# Altium footprint library bga_footp.PcbLib: 19 footprints (part 4 of 4)
Each footprint in its own frame and in the unit in brackets; x right, y up, seen from the top. Pads: shape width x height; smd on the part's side, far side on the other; paste and mask are expansions set on the pad; w line width, h text height; cw(c..) or ccw(c..) is an arc to the next point about the centre after c.
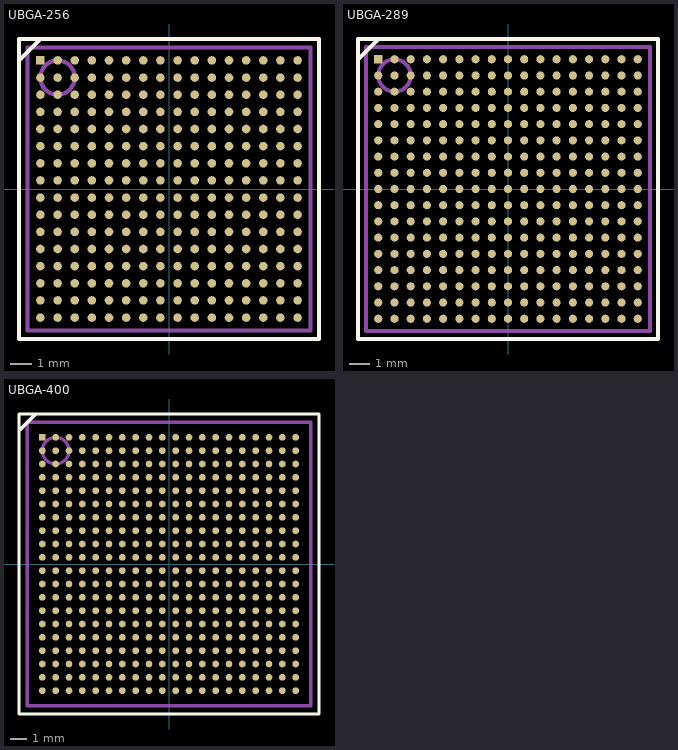
[diagram p3: the footprints below, top view; thin cyan lines are the x and y axes]

## UBGA-256 [mm] "0,8mm pitch"
height 1.5
pads (256):
  rect 0.4x0.4 smd: A1(-6,6)
  round 0.4 smd: A2(-5.2,6) A3(-4.4,6) A4(-3.6,6) A5(-2.8,6) A6(-2,6) A7(-1.2,6) A8(-0.4,6) A9(0.4,6) A10(1.2,6) A11(2,6) A12(2.8,6) A13(3.6,6) A14(4.4,6) A15(5.2,6) A16(6,6) B1(-6,5.2) B2(-5.2,5.2) B3(-4.4,5.2) B4(-3.6,5.2) B5(-2.8,5.2) B6(-2,5.2) B7(-1.2,5.2) B8(-0.4,5.2) B9(0.4,5.2) B10(1.2,5.2) B11(2,5.2) B12(2.8,5.2) B13(3.6,5.2) B14(4.4,5.2) B15(5.2,5.2) B16(6,5.2) C1(-6,4.4) C2(-5.2,4.4) C3(-4.4,4.4) C4(-3.6,4.4) C5(-2.8,4.4) C6(-2,4.4) C7(-1.2,4.4) C8(-0.4,4.4) C9(0.4,4.4) C10(1.2,4.4) C11(2,4.4) C12(2.8,4.4) C13(3.6,4.4) C14(4.4,4.4) C15(5.2,4.4) C16(6,4.4) D1(-6,3.6) D2(-5.2,3.6) D3(-4.4,3.6) D4(-3.6,3.6) D5(-2.8,3.6) D6(-2,3.6) D7(-1.2,3.6) D8(-0.4,3.6) D9(0.4,3.6) D10(1.2,3.6) D11(2,3.6) D12(2.8,3.6) D13(3.6,3.6) D14(4.4,3.6) D15(5.2,3.6) D16(6,3.6) E1(-6,2.8) E2(-5.2,2.8) E3(-4.4,2.8) E4(-3.6,2.8) E5(-2.8,2.8) E6(-2,2.8) E7(-1.2,2.8) E8(-0.4,2.8) E9(0.4,2.8) E10(1.2,2.8) E11(2,2.8) E12(2.8,2.8) E13(3.6,2.8) E14(4.4,2.8) E15(5.2,2.8) E16(6,2.8) F1(-6,2) F2(-5.2,2) F3(-4.4,2) F4(-3.6,2) F5(-2.8,2) F6(-2,2) F7(-1.2,2) F8(-0.4,2) F9(0.4,2) F10(1.2,2) F11(2,2) F12(2.8,2) F13(3.6,2) F14(4.4,2) F15(5.2,2) F16(6,2) G1(-6,1.2) G2(-5.2,1.2) G3(-4.4,1.2) G4(-3.6,1.2) G5(-2.8,1.2) G6(-2,1.2) G7(-1.2,1.2) G8(-0.4,1.2) G9(0.4,1.2) G10(1.2,1.2) G11(2,1.2) G12(2.8,1.2) G13(3.6,1.2) G14(4.4,1.2) G15(5.2,1.2) G16(6,1.2) H1(-6,0.4) H2(-5.2,0.4) H3(-4.4,0.4) H4(-3.6,0.4) H5(-2.8,0.4) H6(-2,0.4) H7(-1.2,0.4) H8(-0.4,0.4) H9(0.4,0.4) H10(1.2,0.4) H11(2,0.4) H12(2.8,0.4) H13(3.6,0.4) H14(4.4,0.4) H15(5.2,0.4) H16(6,0.4) J1(-6,-0.4) J2(-5.2,-0.4) J3(-4.4,-0.4) J4(-3.6,-0.4) J5(-2.8,-0.4) J6(-2,-0.4) J7(-1.2,-0.4) J8(-0.4,-0.4) J9(0.4,-0.4) J10(1.2,-0.4) J11(2,-0.4) J12(2.8,-0.4) J13(3.6,-0.4) J14(4.4,-0.4) J15(5.2,-0.4) J16(6,-0.4) K1(-6,-1.2) K2(-5.2,-1.2) K3(-4.4,-1.2) K4(-3.6,-1.2) K5(-2.8,-1.2) K6(-2,-1.2) K7(-1.2,-1.2) K8(-0.4,-1.2) K9(0.4,-1.2) K10(1.2,-1.2) K11(2,-1.2) K12(2.8,-1.2) K13(3.6,-1.2) K14(4.4,-1.2) K15(5.2,-1.2) K16(6,-1.2) L1(-6,-2) L2(-5.2,-2) L3(-4.4,-2) L4(-3.6,-2) L5(-2.8,-2) L6(-2,-2) L7(-1.2,-2) L8(-0.4,-2) L9(0.4,-2) L10(1.2,-2) L11(2,-2) L12(2.8,-2) L13(3.6,-2) L14(4.4,-2) L15(5.2,-2) L16(6,-2) M1(-6,-2.8) M2(-5.2,-2.8) M3(-4.4,-2.8) M4(-3.6,-2.8) M5(-2.8,-2.8) M6(-2,-2.8) M7(-1.2,-2.8) M8(-0.4,-2.8) M9(0.4,-2.8) M10(1.2,-2.8) M11(2,-2.8) M12(2.8,-2.8) M13(3.6,-2.8) M14(4.4,-2.8) M15(5.2,-2.8) M16(6,-2.8) N1(-6,-3.6) N2(-5.2,-3.6) N3(-4.4,-3.6) N4(-3.6,-3.6) N5(-2.8,-3.6) N6(-2,-3.6) N7(-1.2,-3.6) N8(-0.4,-3.6) N9(0.4,-3.6) N10(1.2,-3.6) N11(2,-3.6) N12(2.8,-3.6) N13(3.6,-3.6) N14(4.4,-3.6) N15(5.2,-3.6) N16(6,-3.6) P1(-6,-4.4) P2(-5.2,-4.4) P3(-4.4,-4.4) P4(-3.6,-4.4) P5(-2.8,-4.4) P6(-2,-4.4) P7(-1.2,-4.4) P8(-0.4,-4.4) P9(0.4,-4.4) P10(1.2,-4.4) P11(2,-4.4) P12(2.8,-4.4) P13(3.6,-4.4) P14(4.4,-4.4) P15(5.2,-4.4) P16(6,-4.4) R1(-6,-5.2) R2(-5.2,-5.2) R3(-4.4,-5.2) R4(-3.6,-5.2) R5(-2.8,-5.2) R6(-2,-5.2) R7(-1.2,-5.2) R8(-0.4,-5.2) R9(0.4,-5.2) R10(1.2,-5.2) R11(2,-5.2) R12(2.8,-5.2) R13(3.6,-5.2) R14(4.4,-5.2) R15(5.2,-5.2) R16(6,-5.2) T1(-6,-6) T2(-5.2,-6) T3(-4.4,-6) T4(-3.6,-6) T5(-2.8,-6) T6(-2,-6) T7(-1.2,-6) T8(-0.4,-6) T9(0.4,-6) T10(1.2,-6) T11(2,-6) T12(2.8,-6) T13(3.6,-6) T14(4.4,-6) T15(5.2,-6) T16(6,-6)
Top Overlay:
  lines w0.2: -7,6 -6,7 ; -7,-7 7,-7 7,7 -7,7 -7,-7
Mechanical 1:
  circle w0.2: c-5.2,5.2 r0.8
  lines w0.2: -6.6,-6.6 6.6,-6.6 6.6,6.6 -6.6,6.6 -6.6,-6.6
3D body: height 0.5, standoff -0.1, extent 5.701,3.3 6.299,3.897
3D body: height 0.5, standoff -0.1, extent 5.701,4.1 6.299,4.697
3D body: height 0.5, standoff -0.1, extent 5.701,4.9 6.299,5.497
3D body: height 0.5, standoff -0.1, extent 5.701,5.7 6.299,6.297
3D body: height 0.5, standoff -0.1, extent 5.701,-0.7 6.299,-0.103
3D body: height 0.5, standoff -0.1, extent 5.701,-1.5 6.299,-0.903
3D body: height 0.5, standoff -0.1, extent 5.701,-2.3 6.299,-1.703
3D body: height 0.5, standoff -0.1, extent 5.701,0.1 6.299,0.697
3D body: height 0.5, standoff -0.1, extent 5.701,0.9 6.299,1.497
3D body: height 0.5, standoff -0.1, extent 5.701,1.7 6.299,2.297
3D body: height 0.5, standoff -0.1, extent 5.701,2.5 6.299,3.097
3D body: height 0.5, standoff -0.1, extent 5.701,-5.5 6.299,-4.903
3D body: height 0.5, standoff -0.1, extent 5.701,-4.7 6.299,-4.103
3D body: height 0.5, standoff -0.1, extent 5.701,-3.9 6.299,-3.303
3D body: height 0.5, standoff -0.1, extent 5.701,-3.1 6.299,-2.503
3D body: height 0.5, standoff -0.1, extent -6.3,-6.299 -5.703,-5.701
3D body: height 0.5, standoff -0.1, extent -0.7,-6.299 -0.103,-5.701
3D body: height 0.5, standoff -0.1, extent -1.5,-6.299 -0.903,-5.701
3D body: height 0.5, standoff -0.1, extent -2.3,-6.299 -1.703,-5.701
3D body: height 0.5, standoff -0.1, extent -3.1,-6.299 -2.503,-5.701
3D body: height 0.5, standoff -0.1, extent -5.5,-6.299 -4.903,-5.701
3D body: height 0.5, standoff -0.1, extent -4.7,-6.299 -4.103,-5.701
3D body: height 0.5, standoff -0.1, extent -3.9,-6.299 -3.303,-5.701
3D body: height 0.5, standoff -0.1, extent 2.5,-6.299 3.097,-5.701
3D body: height 0.5, standoff -0.1, extent 1.7,-6.299 2.297,-5.701
3D body: height 0.5, standoff -0.1, extent 0.9,-6.299 1.497,-5.701
3D body: height 0.5, standoff -0.1, extent 0.1,-6.299 0.697,-5.701
3D body: height 0.5, standoff -0.1, extent 3.3,-6.299 3.897,-5.701
3D body: height 0.5, standoff -0.1, extent 4.1,-6.299 4.697,-5.701
3D body: height 0.5, standoff -0.1, extent 4.9,-6.299 5.497,-5.701
3D body: height 0.5, standoff -0.1, extent 5.7,-6.299 6.297,-5.701
3D body: height 0.5, standoff -0.1, extent -6.299,-3.897 -5.701,-3.3
3D body: height 0.5, standoff -0.1, extent -6.299,-4.697 -5.701,-4.1
3D body: height 0.5, standoff -0.1, extent -6.299,-5.497 -5.701,-4.9
3D body: height 0.5, standoff -0.1, extent -6.299,0.103 -5.701,0.7
3D body: height 0.5, standoff -0.1, extent -6.299,0.903 -5.701,1.5
3D body: height 0.5, standoff -0.1, extent -6.299,1.703 -5.701,2.3
3D body: height 0.5, standoff -0.1, extent -6.299,-0.697 -5.701,-0.1
3D body: height 0.5, standoff -0.1, extent -6.299,-1.497 -5.701,-0.9
3D body: height 0.5, standoff -0.1, extent -6.299,-2.297 -5.701,-1.7
3D body: height 0.5, standoff -0.1, extent -6.299,-3.097 -5.701,-2.5
3D body: height 0.5, standoff -0.1, extent -6.299,4.903 -5.701,5.5
3D body: height 0.5, standoff -0.1, extent -6.299,4.103 -5.701,4.7
3D body: height 0.5, standoff -0.1, extent -6.299,3.303 -5.701,3.9
3D body: height 0.5, standoff -0.1, extent -6.299,2.503 -5.701,3.1
3D body: height 0.5, standoff -0.1, extent 0.103,5.701 0.7,6.299
3D body: height 0.5, standoff -0.1, extent 0.903,5.701 1.5,6.299
3D body: height 0.5, standoff -0.1, extent 1.703,5.701 2.3,6.299
3D body: height 0.5, standoff -0.1, extent 2.503,5.701 3.1,6.299
3D body: height 0.5, standoff -0.1, extent 4.903,5.701 5.5,6.299
3D body: height 0.5, standoff -0.1, extent 4.103,5.701 4.7,6.299
3D body: height 0.5, standoff -0.1, extent 3.303,5.701 3.9,6.299
3D body: height 0.5, standoff -0.1, extent -3.097,5.701 -2.5,6.299
3D body: height 0.5, standoff -0.1, extent -2.297,5.701 -1.7,6.299
3D body: height 0.5, standoff -0.1, extent -1.497,5.701 -0.9,6.299
3D body: height 0.5, standoff -0.1, extent -0.697,5.701 -0.1,6.299
3D body: height 0.5, standoff -0.1, extent -3.897,5.701 -3.3,6.299
3D body: height 0.5, standoff -0.1, extent -4.697,5.701 -4.1,6.299
3D body: height 0.5, standoff -0.1, extent -5.497,5.701 -4.9,6.299
3D body: height 0.5, standoff -0.1, extent -6.297,5.701 -5.7,6.299
3D body: height 1.5, standoff 0.3, extent -6.6,-6.6 6.6,6.6

## UBGA-289 [mm] "0,8mm pitch"
height 1.5
pads (289):
  rect 0.4x0.4 smd: A1(-6.4,6.4)
  round 0.4 smd: A2(-5.6,6.4) A3(-4.8,6.4) A4(-4,6.4) A5(-3.2,6.4) A6(-2.4,6.4) A7(-1.6,6.4) A8(-0.8,6.4) A9(0,6.4) A10(0.8,6.4) A11(1.6,6.4) A12(2.4,6.4) A13(3.2,6.4) A14(4,6.4) A15(4.8,6.4) A16(5.6,6.4) A17(6.4,6.4) B1(-6.4,5.6) B2(-5.6,5.6) B3(-4.8,5.6) B4(-4,5.6) B5(-3.2,5.6) B6(-2.4,5.6) B7(-1.6,5.6) B8(-0.8,5.6) B9(0,5.6) B10(0.8,5.6) B11(1.6,5.6) B12(2.4,5.6) B13(3.2,5.6) B14(4,5.6) B15(4.8,5.6) B16(5.6,5.6) B17(6.4,5.6) C1(-6.4,4.8) C2(-5.6,4.8) C3(-4.8,4.8) C4(-4,4.8) C5(-3.2,4.8) C6(-2.4,4.8) C7(-1.6,4.8) C8(-0.8,4.8) C9(0,4.8) C10(0.8,4.8) C11(1.6,4.8) C12(2.4,4.8) C13(3.2,4.8) C14(4,4.8) C15(4.8,4.8) C16(5.6,4.8) C17(6.4,4.8) D1(-6.4,4) D2(-5.6,4) D3(-4.8,4) D4(-4,4) D5(-3.2,4) D6(-2.4,4) D7(-1.6,4) D8(-0.8,4) D9(0,4) D10(0.8,4) D11(1.6,4) D12(2.4,4) D13(3.2,4) D14(4,4) D15(4.8,4) D16(5.6,4) D17(6.4,4) E1(-6.4,3.2) E2(-5.6,3.2) E3(-4.8,3.2) E4(-4,3.2) E5(-3.2,3.2) E6(-2.4,3.2) E7(-1.6,3.2) E8(-0.8,3.2) E9(0,3.2) E10(0.8,3.2) E11(1.6,3.2) E12(2.4,3.2) E13(3.2,3.2) E14(4,3.2) E15(4.8,3.2) E16(5.6,3.2) E17(6.4,3.2) F1(-6.4,2.4) F2(-5.6,2.4) F3(-4.8,2.4) F4(-4,2.4) F5(-3.2,2.4) F6(-2.4,2.4) F7(-1.6,2.4) F8(-0.8,2.4) F9(0,2.4) F10(0.8,2.4) F11(1.6,2.4) F12(2.4,2.4) F13(3.2,2.4) F14(4,2.4) F15(4.8,2.4) F16(5.6,2.4) F17(6.4,2.4) G1(-6.4,1.6) G2(-5.6,1.6) G3(-4.8,1.6) G4(-4,1.6) G5(-3.2,1.6) G6(-2.4,1.6) G7(-1.6,1.6) G8(-0.8,1.6) G9(0,1.6) G10(0.8,1.6) G11(1.6,1.6) G12(2.4,1.6) G13(3.2,1.6) G14(4,1.6) G15(4.8,1.6) G16(5.6,1.6) G17(6.4,1.6) H1(-6.4,0.8) H2(-5.6,0.8) H3(-4.8,0.8) H4(-4,0.8) H5(-3.2,0.8) H6(-2.4,0.8) H7(-1.6,0.8) H8(-0.8,0.8) H9(0,0.8) H10(0.8,0.8) H11(1.6,0.8) H12(2.4,0.8) H13(3.2,0.8) H14(4,0.8) H15(4.8,0.8) H16(5.6,0.8) H17(6.4,0.8) J1(-6.4,0) J2(-5.6,0) J3(-4.8,0) J4(-4,0) J5(-3.2,0) J6(-2.4,0) J7(-1.6,0) J8(-0.8,0) J9(0,0) J10(0.8,0) J11(1.6,0) J12(2.4,0) J13(3.2,0) J14(4,0) J15(4.8,0) J16(5.6,0) J17(6.4,0) K1(-6.4,-0.8) K2(-5.6,-0.8) K3(-4.8,-0.8) K4(-4,-0.8) K5(-3.2,-0.8) K6(-2.4,-0.8) K7(-1.6,-0.8) K8(-0.8,-0.8) K9(0,-0.8) K10(0.8,-0.8) K11(1.6,-0.8) K12(2.4,-0.8) K13(3.2,-0.8) K14(4,-0.8) K15(4.8,-0.8) K16(5.6,-0.8) K17(6.4,-0.8) L1(-6.4,-1.6) L2(-5.6,-1.6) L3(-4.8,-1.6) L4(-4,-1.6) L5(-3.2,-1.6) L6(-2.4,-1.6) L7(-1.6,-1.6) L8(-0.8,-1.6) L9(0,-1.6) L10(0.8,-1.6) L11(1.6,-1.6) L12(2.4,-1.6) L13(3.2,-1.6) L14(4,-1.6) L15(4.8,-1.6) L16(5.6,-1.6) L17(6.4,-1.6) M1(-6.4,-2.4) M2(-5.6,-2.4) M3(-4.8,-2.4) M4(-4,-2.4) M5(-3.2,-2.4) M6(-2.4,-2.4) M7(-1.6,-2.4) M8(-0.8,-2.4) M9(0,-2.4) M10(0.8,-2.4) M11(1.6,-2.4) M12(2.4,-2.4) M13(3.2,-2.4) M14(4,-2.4) M15(4.8,-2.4) M16(5.6,-2.4) M17(6.4,-2.4) N1(-6.4,-3.2) N2(-5.6,-3.2) N3(-4.8,-3.2) N4(-4,-3.2) N5(-3.2,-3.2) N6(-2.4,-3.2) N7(-1.6,-3.2) N8(-0.8,-3.2) N9(0,-3.2) N10(0.8,-3.2) N11(1.6,-3.2) N12(2.4,-3.2) N13(3.2,-3.2) N14(4,-3.2) N15(4.8,-3.2) N16(5.6,-3.2) N17(6.4,-3.2) P1(-6.4,-4) P2(-5.6,-4) P3(-4.8,-4) P4(-4,-4) P5(-3.2,-4) P6(-2.4,-4) P7(-1.6,-4) P8(-0.8,-4) P9(0,-4) P10(0.8,-4) P11(1.6,-4) P12(2.4,-4) P13(3.2,-4) P14(4,-4) P15(4.8,-4) P16(5.6,-4) P17(6.4,-4) R1(-6.4,-4.8) R2(-5.6,-4.8) R3(-4.8,-4.8) R4(-4,-4.8) R5(-3.2,-4.8) R6(-2.4,-4.8) R7(-1.6,-4.8) R8(-0.8,-4.8) R9(0,-4.8) R10(0.8,-4.8) R11(1.6,-4.8) R12(2.4,-4.8) R13(3.2,-4.8) R14(4,-4.8) R15(4.8,-4.8) R16(5.6,-4.8) R17(6.4,-4.8) T1(-6.4,-5.6) T2(-5.6,-5.6) T3(-4.8,-5.6) T4(-4,-5.6) T5(-3.2,-5.6) T6(-2.4,-5.6) T7(-1.6,-5.6) T8(-0.8,-5.6) T9(0,-5.6) T10(0.8,-5.6) T11(1.6,-5.6) T12(2.4,-5.6) T13(3.2,-5.6) T14(4,-5.6) T15(4.8,-5.6) T16(5.6,-5.6) T17(6.4,-5.6) U1(-6.4,-6.4) U2(-5.6,-6.4) U3(-4.8,-6.4) U4(-4,-6.4) U5(-3.2,-6.4) U6(-2.4,-6.4) U7(-1.6,-6.4) U8(-0.8,-6.4) U9(0,-6.4) U10(0.8,-6.4) U11(1.6,-6.4) U12(2.4,-6.4) U13(3.2,-6.4) U14(4,-6.4) U15(4.8,-6.4) U16(5.6,-6.4) U17(6.4,-6.4)
Top Overlay:
  lines w0.2: -7.4,6.4 -6.4,7.4 ; -7.4,-7.4 -7.4,7.4 7.4,7.4 7.4,-7.4 -7.4,-7.4
Mechanical 1:
  circle w0.2: c-5.6,5.6 r0.8
  lines w0.2: -7,-7 -7,7 7,7 7,-7 -7,-7
3D body: height 1.5, standoff 0.3, extent -7,-7 7,7
3D body: height 0.5, standoff -0.1, extent -6.697,6.101 -6.1,6.699
3D body: height 0.5, standoff -0.1, extent -5.897,6.101 -5.3,6.699
3D body: height 0.5, standoff -0.1, extent -5.097,6.101 -4.5,6.699
3D body: height 0.5, standoff -0.1, extent -4.297,6.101 -3.7,6.699
3D body: height 0.5, standoff -0.1, extent -1.097,6.101 -0.5,6.699
3D body: height 0.5, standoff -0.1, extent -1.897,6.101 -1.3,6.699
3D body: height 0.5, standoff -0.1, extent -2.697,6.101 -2.1,6.699
3D body: height 0.5, standoff -0.1, extent -3.497,6.101 -2.9,6.699
3D body: height 0.5, standoff -0.1, extent 2.903,6.101 3.5,6.699
3D body: height 0.5, standoff -0.1, extent 3.703,6.101 4.3,6.699
3D body: height 0.5, standoff -0.1, extent 4.503,6.101 5.1,6.699
3D body: height 0.5, standoff -0.1, extent 2.103,6.101 2.7,6.699
3D body: height 0.5, standoff -0.1, extent 1.303,6.101 1.9,6.699
3D body: height 0.5, standoff -0.1, extent 0.503,6.101 1.1,6.699
3D body: height 0.5, standoff -0.1, extent -0.297,6.101 0.3,6.699
3D body: height 0.5, standoff -0.1, extent 5.303,6.101 5.9,6.699
3D body: height 0.5, standoff -0.1, extent -6.699,2.903 -6.101,3.5
3D body: height 0.5, standoff -0.1, extent -6.699,3.703 -6.101,4.3
3D body: height 0.5, standoff -0.1, extent -6.699,4.503 -6.101,5.1
3D body: height 0.5, standoff -0.1, extent -6.699,5.303 -6.101,5.9
3D body: height 0.5, standoff -0.1, extent -6.699,-2.697 -6.101,-2.1
3D body: height 0.5, standoff -0.1, extent -6.699,-1.897 -6.101,-1.3
3D body: height 0.5, standoff -0.1, extent -6.699,-1.097 -6.101,-0.5
3D body: height 0.5, standoff -0.1, extent -6.699,-0.297 -6.101,0.3
3D body: height 0.5, standoff -0.1, extent -6.699,2.103 -6.101,2.7
3D body: height 0.5, standoff -0.1, extent -6.699,1.303 -6.101,1.9
3D body: height 0.5, standoff -0.1, extent -6.699,0.503 -6.101,1.1
3D body: height 0.5, standoff -0.1, extent -6.699,-5.897 -6.101,-5.3
3D body: height 0.5, standoff -0.1, extent -6.699,-5.097 -6.101,-4.5
3D body: height 0.5, standoff -0.1, extent -6.699,-4.297 -6.101,-3.7
3D body: height 0.5, standoff -0.1, extent -6.699,-3.497 -6.101,-2.9
3D body: height 0.5, standoff -0.1, extent 6.1,-6.699 6.697,-6.101
3D body: height 0.5, standoff -0.1, extent 5.3,-6.699 5.897,-6.101
3D body: height 0.5, standoff -0.1, extent 4.5,-6.699 5.097,-6.101
3D body: height 0.5, standoff -0.1, extent 3.7,-6.699 4.297,-6.101
3D body: height 0.5, standoff -0.1, extent 0.5,-6.699 1.097,-6.101
3D body: height 0.5, standoff -0.1, extent 1.3,-6.699 1.897,-6.101
3D body: height 0.5, standoff -0.1, extent 2.1,-6.699 2.697,-6.101
3D body: height 0.5, standoff -0.1, extent 2.9,-6.699 3.497,-6.101
3D body: height 0.5, standoff -0.1, extent -3.5,-6.699 -2.903,-6.101
3D body: height 0.5, standoff -0.1, extent -4.3,-6.699 -3.703,-6.101
3D body: height 0.5, standoff -0.1, extent -5.1,-6.699 -4.503,-6.101
3D body: height 0.5, standoff -0.1, extent -2.7,-6.699 -2.103,-6.101
3D body: height 0.5, standoff -0.1, extent -1.9,-6.699 -1.303,-6.101
3D body: height 0.5, standoff -0.1, extent -1.1,-6.699 -0.503,-6.101
3D body: height 0.5, standoff -0.1, extent -0.3,-6.699 0.297,-6.101
3D body: height 0.5, standoff -0.1, extent -6.7,-6.699 -6.103,-6.101
3D body: height 0.5, standoff -0.1, extent -5.9,-6.699 -5.303,-6.101
3D body: height 0.5, standoff -0.1, extent 6.101,-3.5 6.699,-2.903
3D body: height 0.5, standoff -0.1, extent 6.101,-4.3 6.699,-3.703
3D body: height 0.5, standoff -0.1, extent 6.101,-5.1 6.699,-4.503
3D body: height 0.5, standoff -0.1, extent 6.101,-5.9 6.699,-5.303
3D body: height 0.5, standoff -0.1, extent 6.101,2.1 6.699,2.697
3D body: height 0.5, standoff -0.1, extent 6.101,1.3 6.699,1.897
3D body: height 0.5, standoff -0.1, extent 6.101,0.5 6.699,1.097
3D body: height 0.5, standoff -0.1, extent 6.101,-0.3 6.699,0.297
3D body: height 0.5, standoff -0.1, extent 6.101,-2.7 6.699,-2.103
3D body: height 0.5, standoff -0.1, extent 6.101,-1.9 6.699,-1.303
3D body: height 0.5, standoff -0.1, extent 6.101,-1.1 6.699,-0.503
3D body: height 0.5, standoff -0.1, extent 6.101,5.3 6.699,5.897
3D body: height 0.5, standoff -0.1, extent 6.101,4.5 6.699,5.097
3D body: height 0.5, standoff -0.1, extent 6.101,3.7 6.699,4.297
3D body: height 0.5, standoff -0.1, extent 6.101,2.9 6.699,3.497
3D body: height 0.5, standoff -0.1, extent 6.101,6.1 6.699,6.697

## UBGA-400 [mm] "0,8mm pitch"
height 1.5
pads (400):
  rect 0.4x0.4 smd: A1(-7.6,7.6)
  round 0.4 smd: A2(-6.8,7.6) A3(-6,7.6) A4(-5.2,7.6) A5(-4.4,7.6) A6(-3.6,7.6) A7(-2.8,7.6) A8(-2,7.6) A9(-1.2,7.6) A10(-0.4,7.6) A11(0.4,7.6) A12(1.2,7.6) A13(2,7.6) A14(2.8,7.6) A15(3.6,7.6) A16(4.4,7.6) A17(5.2,7.6) A18(6,7.6) A19(6.8,7.6) A20(7.6,7.6) B1(-7.6,6.8) B2(-6.8,6.8) B3(-6,6.8) B4(-5.2,6.8) B5(-4.4,6.8) B6(-3.6,6.8) B7(-2.8,6.8) B8(-2,6.8) B9(-1.2,6.8) B10(-0.4,6.8) B11(0.4,6.8) B12(1.2,6.8) B13(2,6.8) B14(2.8,6.8) B15(3.6,6.8) B16(4.4,6.8) B17(5.2,6.8) B18(6,6.8) B19(6.8,6.8) B20(7.6,6.8) C1(-7.6,6) C2(-6.8,6) C3(-6,6) C4(-5.2,6) C5(-4.4,6) C6(-3.6,6) C7(-2.8,6) C8(-2,6) C9(-1.2,6) C10(-0.4,6) C11(0.4,6) C12(1.2,6) C13(2,6) C14(2.8,6) C15(3.6,6) C16(4.4,6) C17(5.2,6) C18(6,6) C19(6.8,6) C20(7.6,6) D1(-7.6,5.2) D2(-6.8,5.2) D3(-6,5.2) D4(-5.2,5.2) D5(-4.4,5.2) D6(-3.6,5.2) D7(-2.8,5.2) D8(-2,5.2) D9(-1.2,5.2) D10(-0.4,5.2) D11(0.4,5.2) D12(1.2,5.2) D13(2,5.2) D14(2.8,5.2) D15(3.6,5.2) D16(4.4,5.2) D17(5.2,5.2) D18(6,5.2) D19(6.8,5.2) D20(7.6,5.2) E1(-7.6,4.4) E2(-6.8,4.4) E3(-6,4.4) E4(-5.2,4.4) E5(-4.4,4.4) E6(-3.6,4.4) E7(-2.8,4.4) E8(-2,4.4) E9(-1.2,4.4) E10(-0.4,4.4) E11(0.4,4.4) E12(1.2,4.4) E13(2,4.4) E14(2.8,4.4) E15(3.6,4.4) E16(4.4,4.4) E17(5.2,4.4) E18(6,4.4) E19(6.8,4.4) E20(7.6,4.4) F1(-7.6,3.6) F2(-6.8,3.6) F3(-6,3.6) F4(-5.2,3.6) F5(-4.4,3.6) F6(-3.6,3.6) F7(-2.8,3.6) F8(-2,3.6) F9(-1.2,3.6) F10(-0.4,3.6) F11(0.4,3.6) F12(1.2,3.6) F13(2,3.6) F14(2.8,3.6) F15(3.6,3.6) F16(4.4,3.6) F17(5.2,3.6) F18(6,3.6) F19(6.8,3.6) F20(7.6,3.6) G1(-7.6,2.8) G2(-6.8,2.8) G3(-6,2.8) G4(-5.2,2.8) G5(-4.4,2.8) G6(-3.6,2.8) G7(-2.8,2.8) G8(-2,2.8) G9(-1.2,2.8) G10(-0.4,2.8) G11(0.4,2.8) G12(1.2,2.8) G13(2,2.8) G14(2.8,2.8) G15(3.6,2.8) G16(4.4,2.8) G17(5.2,2.8) G18(6,2.8) G19(6.8,2.8) G20(7.6,2.8) H1(-7.6,2) H2(-6.8,2) H3(-6,2) H4(-5.2,2) H5(-4.4,2) H6(-3.6,2) H7(-2.8,2) H8(-2,2) H9(-1.2,2) H10(-0.4,2) H11(0.4,2) H12(1.2,2) H13(2,2) H14(2.8,2) H15(3.6,2) H16(4.4,2) H17(5.2,2) H18(6,2) H19(6.8,2) H20(7.6,2) J1(-7.6,1.2) J2(-6.8,1.2) J3(-6,1.2) J4(-5.2,1.2) J5(-4.4,1.2) J6(-3.6,1.2) J7(-2.8,1.2) J8(-2,1.2) J9(-1.2,1.2) J10(-0.4,1.2) J11(0.4,1.2) J12(1.2,1.2) J13(2,1.2) J14(2.8,1.2) J15(3.6,1.2) J16(4.4,1.2) J17(5.2,1.2) J18(6,1.2) J19(6.8,1.2) J20(7.6,1.2) K1(-7.6,0.4) K2(-6.8,0.4) K3(-6,0.4) K4(-5.2,0.4) K5(-4.4,0.4) K6(-3.6,0.4) K7(-2.8,0.4) K8(-2,0.4) K9(-1.2,0.4) K10(-0.4,0.4) K11(0.4,0.4) K12(1.2,0.4) K13(2,0.4) K14(2.8,0.4) K15(3.6,0.4) K16(4.4,0.4) K17(5.2,0.4) K18(6,0.4) K19(6.8,0.4) K20(7.6,0.4) L1(-7.6,-0.4) L2(-6.8,-0.4) L3(-6,-0.4) L4(-5.2,-0.4) L5(-4.4,-0.4) L6(-3.6,-0.4) L7(-2.8,-0.4) L8(-2,-0.4) L9(-1.2,-0.4) L10(-0.4,-0.4) L11(0.4,-0.4) L12(1.2,-0.4) L13(2,-0.4) L14(2.8,-0.4) L15(3.6,-0.4) L16(4.4,-0.4) L17(5.2,-0.4) L18(6,-0.4) L19(6.8,-0.4) L20(7.6,-0.4) M1(-7.6,-1.2) M2(-6.8,-1.2) M3(-6,-1.2) M4(-5.2,-1.2) M5(-4.4,-1.2) M6(-3.6,-1.2) M7(-2.8,-1.2) M8(-2,-1.2) M9(-1.2,-1.2) M10(-0.4,-1.2) M11(0.4,-1.2) M12(1.2,-1.2) M13(2,-1.2) M14(2.8,-1.2) M15(3.6,-1.2) M16(4.4,-1.2) M17(5.2,-1.2) M18(6,-1.2) M19(6.8,-1.2) M20(7.6,-1.2) N1(-7.6,-2) N2(-6.8,-2) N3(-6,-2) N4(-5.2,-2) N5(-4.4,-2) N6(-3.6,-2) N7(-2.8,-2) N8(-2,-2) N9(-1.2,-2) N10(-0.4,-2) N11(0.4,-2) N12(1.2,-2) N13(2,-2) N14(2.8,-2) N15(3.6,-2) N16(4.4,-2) N17(5.2,-2) N18(6,-2) N19(6.8,-2) N20(7.6,-2) P1(-7.6,-2.8) P2(-6.8,-2.8) P3(-6,-2.8) P4(-5.2,-2.8) P5(-4.4,-2.8) P6(-3.6,-2.8) P7(-2.8,-2.8) P8(-2,-2.8) P9(-1.2,-2.8) P10(-0.4,-2.8) P11(0.4,-2.8) P12(1.2,-2.8) P13(2,-2.8) P14(2.8,-2.8) P15(3.6,-2.8) P16(4.4,-2.8) P17(5.2,-2.8) P18(6,-2.8) P19(6.8,-2.8) P20(7.6,-2.8) R1(-7.6,-3.6) R2(-6.8,-3.6) R3(-6,-3.6) R4(-5.2,-3.6) R5(-4.4,-3.6) R6(-3.6,-3.6) R7(-2.8,-3.6) R8(-2,-3.6) R9(-1.2,-3.6) R10(-0.4,-3.6) R11(0.4,-3.6) R12(1.2,-3.6) R13(2,-3.6) R14(2.8,-3.6) R15(3.6,-3.6) R16(4.4,-3.6) R17(5.2,-3.6) R18(6,-3.6) R19(6.8,-3.6) R20(7.6,-3.6) T1(-7.6,-4.4) T2(-6.8,-4.4) T3(-6,-4.4) T4(-5.2,-4.4) T5(-4.4,-4.4) T6(-3.6,-4.4) T7(-2.8,-4.4) T8(-2,-4.4) T9(-1.2,-4.4) T10(-0.4,-4.4) T11(0.4,-4.4) T12(1.2,-4.4) T13(2,-4.4) T14(2.8,-4.4) T15(3.6,-4.4) T16(4.4,-4.4) T17(5.2,-4.4) T18(6,-4.4) T19(6.8,-4.4) T20(7.6,-4.4) U1(-7.6,-5.2) U2(-6.8,-5.2) U3(-6,-5.2) U4(-5.2,-5.2) U5(-4.4,-5.2) U6(-3.6,-5.2) U7(-2.8,-5.2) U8(-2,-5.2) U9(-1.2,-5.2) U10(-0.4,-5.2) U11(0.4,-5.2) U12(1.2,-5.2) U13(2,-5.2) U14(2.8,-5.2) U15(3.6,-5.2) U16(4.4,-5.2) U17(5.2,-5.2) U18(6,-5.2) U19(6.8,-5.2) U20(7.6,-5.2) V1(-7.6,-6) V2(-6.8,-6) V3(-6,-6) V4(-5.2,-6) V5(-4.4,-6) V6(-3.6,-6) V7(-2.8,-6) V8(-2,-6) V9(-1.2,-6) V10(-0.4,-6) V11(0.4,-6) V12(1.2,-6) V13(2,-6) V14(2.8,-6) V15(3.6,-6) V16(4.4,-6) V17(5.2,-6) V18(6,-6) V19(6.8,-6) V20(7.6,-6) W1(-7.6,-6.8) W2(-6.8,-6.8) W3(-6,-6.8) W4(-5.2,-6.8) W5(-4.4,-6.8) W6(-3.6,-6.8) W7(-2.8,-6.8) W8(-2,-6.8) W9(-1.2,-6.8) W10(-0.4,-6.8) W11(0.4,-6.8) W12(1.2,-6.8) W13(2,-6.8) W14(2.8,-6.8) W15(3.6,-6.8) W16(4.4,-6.8) W17(5.2,-6.8) W18(6,-6.8) W19(6.8,-6.8) W20(7.6,-6.8) Y1(-7.6,-7.6) Y2(-6.8,-7.6) Y3(-6,-7.6) Y4(-5.2,-7.6) Y5(-4.4,-7.6) Y6(-3.6,-7.6) Y7(-2.8,-7.6) Y8(-2,-7.6) Y9(-1.2,-7.6) Y10(-0.4,-7.6) Y11(0.4,-7.6) Y12(1.2,-7.6) Y13(2,-7.6) Y14(2.8,-7.6) Y15(3.6,-7.6) Y16(4.4,-7.6) Y17(5.2,-7.6) Y18(6,-7.6) Y19(6.8,-7.6) Y20(7.6,-7.6)
Top Overlay:
  lines w0.2: -9,8 -8,9 ; -9,-9 -9,9 9,9 9,-9 -9,-9
Mechanical 1:
  circle w0.2: c-6.8,6.8 r0.8
  lines w0.2: -8.5,-8.5 -8.5,8.5 8.5,8.5 8.5,-8.5 -8.5,-8.5
3D body: height 0.5, standoff -0.1, extent -7.899,-7.897 -7.301,-7.3
3D body: height 0.5, standoff -0.1, extent -7.899,-7.097 -7.301,-6.5
3D body: height 0.5, standoff -0.1, extent -7.899,-6.297 -7.301,-5.7
3D body: height 0.5, standoff -0.1, extent -7.899,-5.497 -7.301,-4.9
3D body: height 0.5, standoff -0.1, extent -7.899,-2.297 -7.301,-1.7
3D body: height 0.5, standoff -0.1, extent -7.899,-3.097 -7.301,-2.5
3D body: height 0.5, standoff -0.1, extent -7.899,-3.897 -7.301,-3.3
3D body: height 0.5, standoff -0.1, extent -7.899,-4.697 -7.301,-4.1
3D body: height 0.5, standoff -0.1, extent -7.899,1.703 -7.301,2.3
3D body: height 0.5, standoff -0.1, extent -7.899,2.503 -7.301,3.1
3D body: height 0.5, standoff -0.1, extent -7.899,3.303 -7.301,3.9
3D body: height 0.5, standoff -0.1, extent -7.899,0.903 -7.301,1.5
3D body: height 0.5, standoff -0.1, extent -7.899,0.103 -7.301,0.7
3D body: height 0.5, standoff -0.1, extent -7.899,-0.697 -7.301,-0.1
3D body: height 0.5, standoff -0.1, extent -7.899,-1.497 -7.301,-0.9
3D body: height 0.5, standoff -0.1, extent -7.899,6.503 -7.301,7.1
3D body: height 0.5, standoff -0.1, extent -7.899,5.703 -7.301,6.3
3D body: height 0.5, standoff -0.1, extent -7.899,4.903 -7.301,5.5
3D body: height 0.5, standoff -0.1, extent -7.899,4.103 -7.301,4.7
3D body: height 0.5, standoff -0.1, extent 7.301,-7.097 7.899,-6.5
3D body: height 0.5, standoff -0.1, extent 7.301,-6.297 7.899,-5.7
3D body: height 0.5, standoff -0.1, extent 7.301,-5.497 7.899,-4.9
3D body: height 0.5, standoff -0.1, extent 7.301,-4.697 7.899,-4.1
3D body: height 0.5, standoff -0.1, extent 7.301,-1.497 7.899,-0.9
3D body: height 0.5, standoff -0.1, extent 7.301,-2.297 7.899,-1.7
3D body: height 0.5, standoff -0.1, extent 7.301,-3.097 7.899,-2.5
3D body: height 0.5, standoff -0.1, extent 7.301,-3.897 7.899,-3.3
3D body: height 0.5, standoff -0.1, extent 7.301,2.503 7.899,3.1
3D body: height 0.5, standoff -0.1, extent 7.301,3.303 7.899,3.9
3D body: height 0.5, standoff -0.1, extent 7.301,4.103 7.899,4.7
3D body: height 0.5, standoff -0.1, extent 7.301,1.703 7.899,2.3
3D body: height 0.5, standoff -0.1, extent 7.301,0.903 7.899,1.5
3D body: height 0.5, standoff -0.1, extent 7.301,0.103 7.899,0.7
3D body: height 0.5, standoff -0.1, extent 7.301,-0.697 7.899,-0.1
3D body: height 0.5, standoff -0.1, extent 7.301,7.303 7.899,7.9
3D body: height 0.5, standoff -0.1, extent 7.301,6.503 7.899,7.1
3D body: height 0.5, standoff -0.1, extent 7.301,5.703 7.899,6.3
3D body: height 0.5, standoff -0.1, extent 7.301,4.903 7.899,5.5
3D body: height 0.5, standoff -0.1, extent -7.097,-7.899 -6.5,-7.301
3D body: height 0.5, standoff -0.1, extent -6.297,-7.899 -5.7,-7.301
3D body: height 0.5, standoff -0.1, extent -5.497,-7.899 -4.9,-7.301
3D body: height 0.5, standoff -0.1, extent -4.697,-7.899 -4.1,-7.301
3D body: height 0.5, standoff -0.1, extent -1.497,-7.899 -0.9,-7.301
3D body: height 0.5, standoff -0.1, extent -2.297,-7.899 -1.7,-7.301
3D body: height 0.5, standoff -0.1, extent -3.097,-7.899 -2.5,-7.301
3D body: height 0.5, standoff -0.1, extent -3.897,-7.899 -3.3,-7.301
3D body: height 0.5, standoff -0.1, extent 2.503,-7.899 3.1,-7.301
3D body: height 0.5, standoff -0.1, extent 3.303,-7.899 3.9,-7.301
3D body: height 0.5, standoff -0.1, extent 4.103,-7.899 4.7,-7.301
3D body: height 0.5, standoff -0.1, extent 1.703,-7.899 2.3,-7.301
3D body: height 0.5, standoff -0.1, extent 0.903,-7.899 1.5,-7.301
3D body: height 0.5, standoff -0.1, extent 0.103,-7.899 0.7,-7.301
3D body: height 0.5, standoff -0.1, extent -0.697,-7.899 -0.1,-7.301
3D body: height 0.5, standoff -0.1, extent 7.303,-7.899 7.9,-7.301
3D body: height 0.5, standoff -0.1, extent 6.503,-7.899 7.1,-7.301
3D body: height 0.5, standoff -0.1, extent 5.703,-7.899 6.3,-7.301
3D body: height 0.5, standoff -0.1, extent 4.903,-7.899 5.5,-7.301
3D body: height 0.5, standoff -0.1, extent 4.103,7.301 4.7,7.899
3D body: height 0.5, standoff -0.1, extent 4.903,7.301 5.5,7.899
3D body: height 0.5, standoff -0.1, extent 5.703,7.301 6.3,7.899
3D body: height 0.5, standoff -0.1, extent 6.503,7.301 7.1,7.899
3D body: height 0.5, standoff -0.1, extent -1.497,7.301 -0.9,7.899
3D body: height 0.5, standoff -0.1, extent -0.697,7.301 -0.1,7.899
3D body: height 0.5, standoff -0.1, extent 0.103,7.301 0.7,7.899
3D body: height 0.5, standoff -0.1, extent 0.903,7.301 1.5,7.899
3D body: height 0.5, standoff -0.1, extent 3.303,7.301 3.9,7.899
3D body: height 0.5, standoff -0.1, extent 2.503,7.301 3.1,7.899
3D body: height 0.5, standoff -0.1, extent 1.703,7.301 2.3,7.899
3D body: height 0.5, standoff -0.1, extent -4.697,7.301 -4.1,7.899
3D body: height 0.5, standoff -0.1, extent -3.897,7.301 -3.3,7.899
3D body: height 0.5, standoff -0.1, extent -3.097,7.301 -2.5,7.899
3D body: height 0.5, standoff -0.1, extent -2.297,7.301 -1.7,7.899
3D body: height 0.5, standoff -0.1, extent -5.497,7.301 -4.9,7.899
3D body: height 0.5, standoff -0.1, extent -6.297,7.301 -5.7,7.899
3D body: height 0.5, standoff -0.1, extent -7.097,7.301 -6.5,7.899
3D body: height 0.5, standoff -0.1, extent -7.897,7.301 -7.3,7.899
3D body: height 1.5, standoff 0.3, extent -8.5,-8.5 8.5,8.5